# Altium footprint library SS360PT.PcbLib: 1 footprints
Each footprint in its own frame and in the unit in brackets; x right, y up, seen from the top. Pads: shape width x height; smd on the part's side, far side on the other; paste and mask are expansions set on the pad; w line width, h text height; cw(c..) or ccw(c..) is an arc to the next point about the centre after c.
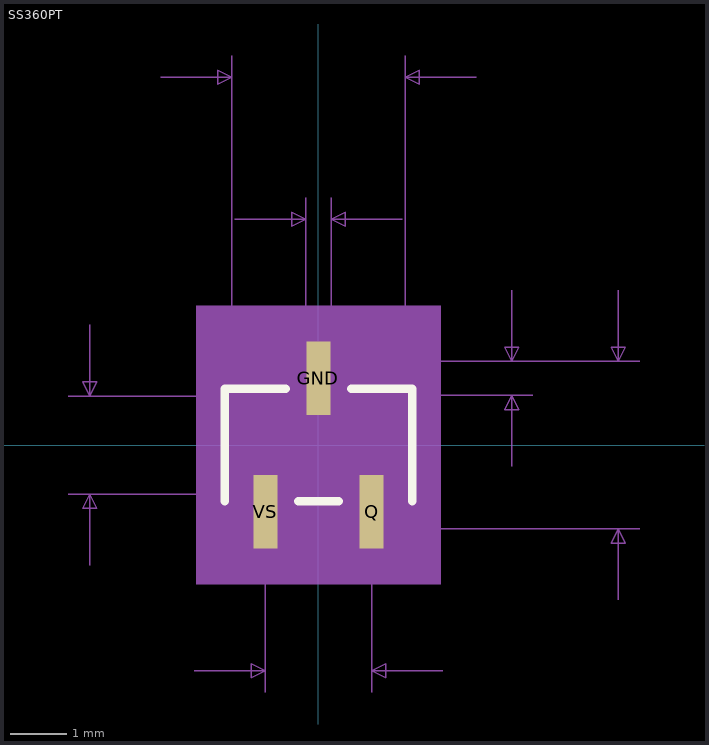
[diagram p0: the footprint, top view; thin cyan lines are the x and y axes]

## SS360PT [mil]
pads (3):
  rect 16.93x52 smd paste+0 mask+0: GND(0,47) Q(37.4,-47) VS(-37.4,-47)
Top Overlay:
  lines w6: -66,-39.5 -66,39.5 -23.1,39.5 ; -14.3,-39.5 14.3,-39.5 ; 23.1,39.5 66,39.5 66,-39.5
Mechanical 5:
  region: -86,98 86,98 86,-98 -86,-98
Mechanical 7:
  lines w1: -176,-34.5 0,-34.5 ; -176,34.5 0,34.5 ; -161,-84.5 -161,-34.5 ; -161,84.5 -161,34.5 ; -111,259 -61,259 ; -87.4,-159 -37.4,-159 ; -61,34.5 -61,274 ; -59,159 -9,159 ; -37.4,-174 -37.4,-59 ; -9,59 -9,174 ; 0,-59 226,-59 ; 0,35 151,35 ; 9,59 9,174 ; 37.4,-174 37.4,-59 ; 59,159 9,159 ; 61,34.5 61,274 ; 87.4,-159 37.4,-159 ; 111,259 61,259 ; 136,-15 136,35 ; 136,109 136,59 ; 151,59 0,59 226,59 ; 211,-109 211,-59 ; 211,109 211,59 ; -161,-34.5 -166,-44.5 -156,-44.5 -161,-34.5 ; -161,34.5 -166,44.5 -156,44.5 -161,34.5 ; -61,259 -71,264 -71,254 -61,259 ; -37.4,-159 -47.4,-154 -47.4,-164 -37.4,-159 ; -9,159 -19,164 -19,154 -9,159 ; 9,159 19,164 19,154 9,159 ; 37.4,-159 47.4,-154 47.4,-164 37.4,-159 ; 61,259 71,264 71,254 61,259 ; 136,35 131,25 141,25 136,35 ; 136,59 131,69 141,69 136,59 ; 211,-59 206,-69 216,-69 211,-59 ; 211,59 206,69 216,69 211,59
  text "Top Padstyle: EX20Y52D0T" at -300,-323 h50
  text "Bottom Padstyle: RX20Y52D0T" at -337.5,-398 h50
  text "Alt 1 Padstyle: OX60Y90D30P" at -337.5,-473 h50
  text "Alt 2 Padstyle: OX90Y60D30P" at -337.5,-548 h50
  text "0.118in/2.997mm" at 231,-12.5 h25
  text "0.024in/0.61mm" at 156,34.5 h25
  text "0.075in/1.9mm" at -81.25,-204 h25
  text "0.018in/0.457mm" at -93.75,179 h25
  text "0.122in/3.099mm" at -93.75,279 h25
  text "0.069in/1.753mm" at -368.5,-12.5 h25
Mechanical 13:
  lines w1: -61,-34.5 61,-34.5 61,34.5 -61,34.5 -61,-34.5 ; -46.4,-59 -46.4,-34.5 -28.4,-34.5 -28.4,-59 -46.4,-59 ; -9,34.5 9,34.5 9,59 -9,59 -9,34.5 ; 28.4,-59 28.4,-34.5 46.4,-34.5 46.4,-59 28.4,-59
Mechanical 15:
  region: -71,-44.5 -71,44.5 -19,44.5 -19,83 19,83 19,44.5 71,44.5 71,-44.5 56.4,-44.5 56.4,-83 -56.4,-83 -56.4,-44.5
  lines w6: -71,-44.5 -71,44.5 -19,44.5 -19,83 19,83 19,44.5 71,44.5 71,-44.5 56.4,-44.5 56.4,-83 -56.4,-83 -56.4,-44.5 -71,-44.5
3D body: height 10, standoff 0, extent 0,0 10,10